# Altium footprint library Gate_Driver.PcbLib: 8 footprints
Each footprint in its own frame and in the unit in brackets; x right, y up, seen from the top. Pads: shape width x height; smd on the part's side, far side on the other; paste and mask are expansions set on the pad; w line width, h text height; cw(c..) or ccw(c..) is an arc to the next point about the centre after c.
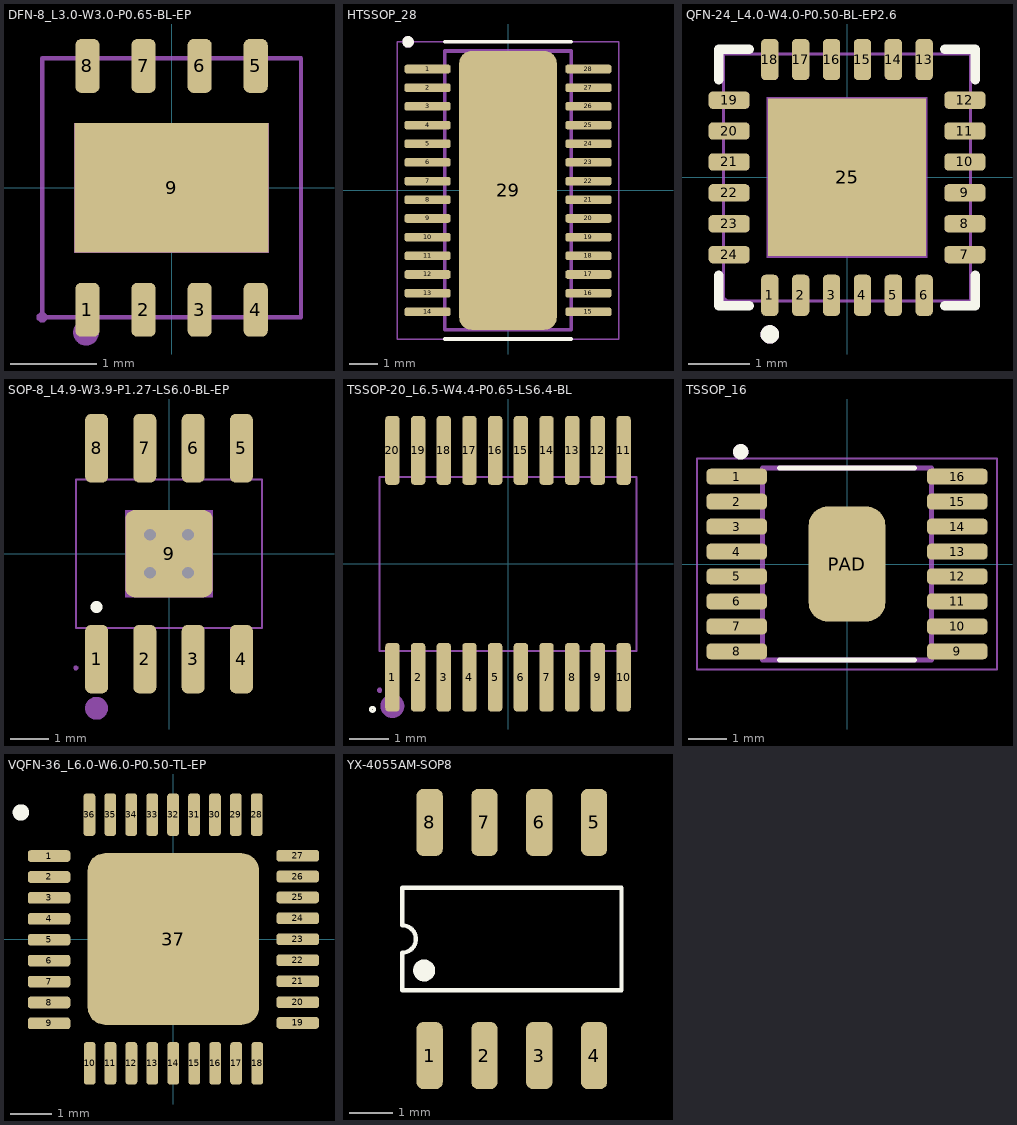
[diagram p0: the footprints below, top view; thin cyan lines are the x and y axes]

## DFN-8_L3.0-W3.0-P0.65-BL-EP [mm]
pads (9):
  rrect50% 0.28x0.625 smd mask+0.051: 1(-0.975,-1.412) 2(-0.325,-1.412) 3(0.325,-1.412) 4(0.975,-1.412) 5(0.975,1.412) 6(0.325,1.412) 7(-0.325,1.412) 8(-0.975,1.412)
  rect 2.25x1.5 smd mask+0.051: 9(0,0)
Mechanical 6:
  circle w0.15: c-0.991,-1.676 r0.075
Mechanical 15:
  region: -1.44,-1.5 -1.44,-1.475 -1.475,-1.44 -1.525,-1.44 -1.56,-1.475 -1.56,-1.5 -1.56,-1.525 -1.525,-1.56 -1.475,-1.56 -1.44,-1.525 -1.44,-1.5
  region: -1.092,-1.5 -1.092,-1.125 -0.867,-1.125 -0.867,-1.5
  region: -0.436,-1.5 -0.436,-1.125 -0.211,-1.125 -0.211,-1.5
  region: 0.212,-1.5 0.212,-1.125 0.437,-1.125 0.437,-1.5
  region: 0.863,-1.5 0.863,-1.125 1.088,-1.125 1.088,-1.5
  region: 0.862,1.499 0.862,1.124 1.088,1.124 1.088,1.499
  region: 0.212,1.499 0.212,1.124 0.437,1.124 0.437,1.499
  region: -0.436,1.499 -0.436,1.124 -0.211,1.124 -0.211,1.499
  region: -1.092,1.499 -1.092,1.124 -0.867,1.124 -0.867,1.499
  region: -1.125,-0.75 -1.125,0.75 1.125,0.75 1.125,-0.75
  lines w0.051: -1.5,-1.5 -1.5,1.5 1.5,1.5 1.5,-1.5 -1.5,-1.5
3D body "DFN-8 3x3.step": height 1, standoff 0, extent -1.5,-1.525 1.5,1.525

## HTSSOP_28 [mm] "HTSSOP_28"
height 4.3
pads (29):
  rrect50% 1.6x0.3 smd paste-2 mask+0: 1(-2.8,4.225) 2(-2.8,3.575) 3(-2.8,2.925) 4(-2.8,2.275) 5(-2.8,1.625) 6(-2.8,0.975) 7(-2.8,0.325) 8(-2.8,-0.325) 9(-2.8,-0.975) 10(-2.8,-1.625) 11(-2.8,-2.275) 12(-2.8,-2.925) 13(-2.8,-3.575) 14(-2.8,-4.225) 15(2.8,-4.225) 16(2.8,-3.575) 17(2.8,-2.925) 18(2.8,-2.275) 19(2.8,-1.625) 20(2.8,-0.975) 21(2.8,-0.325) 22(2.8,0.325) 23(2.8,0.975) 24(2.8,1.625) 25(2.8,2.275) 26(2.8,2.925) 27(2.8,3.575) 28(2.8,4.225)
  rrect25% 3.4x9.7 smd paste-6 mask+0: 29(0,0)
Top Overlay:
  circle w0.2: c-3.478,5.17 r0.1
  lines w0.127: -2.2,-5.17 2.2,-5.17 ; -2.2,5.17 2.2,5.17
Top Paste:
  region: 3.575,-4.35 2.025,-4.35 2.025,-4.1 3.575,-4.1
  region: 3.575,-3.7 2.025,-3.7 2.025,-3.45 3.575,-3.45
  region: 3.575,-3.05 2.025,-3.05 2.025,-2.8 3.575,-2.8
  region: 3.575,-2.4 2.025,-2.4 2.025,-2.15 3.575,-2.15
  region: 3.575,-1.75 2.025,-1.75 2.025,-1.5 3.575,-1.5
  region: 3.575,-1.1 2.025,-1.1 2.025,-0.85 3.575,-0.85
  region: 3.575,-0.45 2.025,-0.45 2.025,-0.2 3.575,-0.2
  region: -2.025,-4.35 -3.575,-4.35 -3.575,-4.1 -2.025,-4.1
  region: -2.025,-3.7 -3.575,-3.7 -3.575,-3.45 -2.025,-3.45
  region: -2.025,-3.05 -3.575,-3.05 -3.575,-2.8 -2.025,-2.8
  region: -2.025,-2.4 -3.575,-2.4 -3.575,-2.15 -2.025,-2.15
  region: -2.025,-1.75 -3.575,-1.75 -3.575,-1.5 -2.025,-1.5
  region: -2.025,-1.1 -3.575,-1.1 -3.575,-0.85 -2.025,-0.85
  region: -2.025,-0.45 -3.575,-0.45 -3.575,-0.2 -2.025,-0.2
  region: 3.575,0.2 2.025,0.2 2.025,0.45 3.575,0.45
  region: -2.025,0.2 -3.575,0.2 -3.575,0.45 -2.025,0.45
  region: 3.575,0.85 2.025,0.85 2.025,1.1 3.575,1.1
  region: -2.025,0.85 -3.575,0.85 -3.575,1.1 -2.025,1.1
  region: 3.575,1.5 2.025,1.5 2.025,1.75 3.575,1.75
  region: -2.025,1.5 -3.575,1.5 -3.575,1.75 -2.025,1.75
  region: 3.575,2.15 2.025,2.15 2.025,2.4 3.575,2.4
  region: -2.025,2.15 -3.575,2.15 -3.575,2.4 -2.025,2.4
  region: 3.575,2.8 2.025,2.8 2.025,3.05 3.575,3.05
  region: -2.025,2.8 -3.575,2.8 -3.575,3.05 -2.025,3.05
  region: 3.575,3.45 2.025,3.45 2.025,3.7 3.575,3.7
  region: -2.025,3.45 -3.575,3.45 -3.575,3.7 -2.025,3.7
  region: 3.575,4.1 2.025,4.1 2.025,4.35 3.575,4.35
  region: -2.025,4.1 -3.575,4.1 -3.575,4.35 -2.025,4.35
  region: 1.2,-3.23 -1.2,-3.23 -1.2,3.23 1.2,3.23
Top Solder:
  region: 3.67,-4.445 1.93,-4.445 1.93,-4.005 3.67,-4.005
  region: 3.67,-3.795 1.93,-3.795 1.93,-3.355 3.67,-3.355
  region: 3.67,-3.145 1.93,-3.145 1.93,-2.705 3.67,-2.705
  region: 3.67,-2.495 1.93,-2.495 1.93,-2.055 3.67,-2.055
  region: 3.67,-1.845 1.93,-1.845 1.93,-1.405 3.67,-1.405
  region: 3.67,-1.195 1.93,-1.195 1.93,-0.755 3.67,-0.755
  region: 3.67,-0.545 1.93,-0.545 1.93,-0.105 3.67,-0.105
  region: -1.93,-4.445 -3.67,-4.445 -3.67,-4.005 -1.93,-4.005
  region: -1.93,-3.795 -3.67,-3.795 -3.67,-3.355 -1.93,-3.355
  region: -1.93,-3.145 -3.67,-3.145 -3.67,-2.705 -1.93,-2.705
  region: -1.93,-2.495 -3.67,-2.495 -3.67,-2.055 -1.93,-2.055
  region: -1.93,-1.845 -3.67,-1.845 -3.67,-1.405 -1.93,-1.405
  region: -1.93,-1.195 -3.67,-1.195 -3.67,-0.755 -1.93,-0.755
  region: -1.93,-0.545 -3.67,-0.545 -3.67,-0.105 -1.93,-0.105
  region: 3.67,0.105 1.93,0.105 1.93,0.545 3.67,0.545
  region: -1.93,0.105 -3.67,0.105 -3.67,0.545 -1.93,0.545
  region: 3.67,0.755 1.93,0.755 1.93,1.195 3.67,1.195
  region: -1.93,0.755 -3.67,0.755 -3.67,1.195 -1.93,1.195
  region: 3.67,1.405 1.93,1.405 1.93,1.845 3.67,1.845
  region: -1.93,1.405 -3.67,1.405 -3.67,1.845 -1.93,1.845
  region: 3.67,2.055 1.93,2.055 1.93,2.495 3.67,2.495
  region: -1.93,2.055 -3.67,2.055 -3.67,2.495 -1.93,2.495
  region: 3.67,2.705 1.93,2.705 1.93,3.145 3.67,3.145
  region: -1.93,2.705 -3.67,2.705 -3.67,3.145 -1.93,3.145
  region: 3.67,3.355 1.93,3.355 1.93,3.795 3.67,3.795
  region: -1.93,3.355 -3.67,3.355 -3.67,3.795 -1.93,3.795
  region: 3.67,4.005 1.93,4.005 1.93,4.445 3.67,4.445
  region: -1.93,4.005 -3.67,4.005 -3.67,4.445 -1.93,4.445
  region: 1.2,-3.23 -1.2,-3.23 -1.2,3.23 1.2,3.23
Mechanical 13:
  circle w0.2: c-3.478,5.17 r0.1
  lines w0.127: -2.2,-4.85 -2.2,4.85 2.2,4.85 2.2,-4.85 -2.2,-4.85
Mechanical 15:
  lines w0.05: -3.85,-5.17 -3.85,5.17 3.85,5.17 3.85,-5.17 -3.85,-5.17
3D body "step_temp.STEP": height 1.2, standoff 0, extent -3.2,-4.85 3.2,4.85

## QFN-24_L4.0-W4.0-P0.50-BL-EP2.6 [mm]
pads (25):
  rrect50% 0.28x0.665 smd mask+0.05: 1(-1.25,-1.908) 2(-0.75,-1.908) 3(-0.25,-1.908) 4(0.25,-1.908) 5(0.75,-1.908) 6(1.25,-1.908) 13(1.25,1.908) 14(0.75,1.908) 15(0.25,1.908) 16(-0.25,1.908) 17(-0.75,1.908) 18(-1.25,1.908)
  rrect50% 0.665x0.28 smd mask+0.05: 7(1.908,-1.25) 8(1.908,-0.75) 9(1.908,-0.25) 10(1.908,0.25) 11(1.908,0.75) 12(1.908,1.25) 19(-1.908,1.25) 20(-1.908,0.75) 21(-1.908,0.25) 22(-1.908,-0.25) 23(-1.908,-0.75) 24(-1.908,-1.25)
  rect 2.55x2.55 smd mask+0.05: 25(0,0)
Top Overlay:
  circle w0.15: c-1.25,-2.54 r0.075
  lines w0.152: -2.076,-1.58 -2.076,-2.076 -1.58,-2.076 ; -2.076,1.58 -2.076,2.076 -1.58,2.076 ; 1.58,-2.076 2.076,-2.076 2.076,-1.58 ; 1.58,2.076 2.076,2.076 2.076,1.58
Top Paste:
  region: -1.02,1.02 1.02,1.02 1.02,-1.02 -1.02,-1.02
  region: -1.39,-2.24 -1.39,-1.575 -1.11,-1.575 -1.11,-2.24
  region: -0.89,-2.24 -0.89,-1.575 -0.61,-1.575 -0.61,-2.24
  region: -0.39,-2.24 -0.39,-1.575 -0.11,-1.575 -0.11,-2.24
  region: 0.11,-2.24 0.11,-1.575 0.39,-1.575 0.39,-2.24
  region: 0.61,-2.24 0.61,-1.575 0.89,-1.575 0.89,-2.24
  region: 1.11,-2.24 1.11,-1.575 1.39,-1.575 1.39,-2.24
  region: 2.24,-1.39 2.24,-1.11 1.575,-1.11 1.575,-1.39
  region: 2.24,-0.89 2.24,-0.61 1.575,-0.61 1.575,-0.89
  region: 2.24,-0.39 2.24,-0.11 1.575,-0.11 1.575,-0.39
  region: 2.24,0.11 2.24,0.39 1.575,0.39 1.575,0.11
  region: 2.24,0.61 2.24,0.89 1.575,0.89 1.575,0.61
  region: 2.24,1.11 2.24,1.39 1.575,1.39 1.575,1.11
  region: 1.11,2.24 1.11,1.575 1.39,1.575 1.39,2.24
  region: 0.61,2.24 0.61,1.575 0.89,1.575 0.89,2.24
  region: 0.11,2.24 0.11,1.575 0.39,1.575 0.39,2.24
  region: -0.39,2.24 -0.39,1.575 -0.11,1.575 -0.11,2.24
  region: -0.89,2.24 -0.89,1.575 -0.61,1.575 -0.61,2.24
  region: -1.39,2.24 -1.39,1.575 -1.11,1.575 -1.11,2.24
  region: -1.575,1.11 -1.575,1.39 -2.24,1.39 -2.24,1.11
  region: -1.575,0.61 -1.575,0.89 -2.24,0.89 -2.24,0.61
  region: -1.575,0.11 -1.575,0.39 -2.24,0.39 -2.24,0.11
  region: -1.575,-0.39 -1.575,-0.11 -2.24,-0.11 -2.24,-0.39
  region: -1.575,-0.89 -1.575,-0.61 -2.24,-0.61 -2.24,-0.89
  region: -1.575,-1.39 -1.575,-1.11 -2.24,-1.11 -2.24,-1.39
Mechanical 6:
  circle w0.15: c-1.25,-2.54 r0.075
Mechanical 15:
  region: -1.3,1.3 1.3,1.3 1.3,-1.3 -1.3,-1.3
  region: -1.6,-1.37 -1.6,-1.13 -2,-1.13 -2,-1.37
  region: -1.6,-0.87 -1.6,-0.63 -2,-0.63 -2,-0.87
  region: -1.6,-0.37 -1.6,-0.13 -2,-0.13 -2,-0.37
  region: -1.6,0.13 -1.6,0.37 -2,0.37 -2,0.13
  region: -1.6,0.63 -1.6,0.87 -2,0.87 -2,0.63
  region: -1.6,1.13 -1.6,1.37 -2,1.37 -2,1.13
  region: -1.37,2 -1.37,1.6 -1.13,1.6 -1.13,2
  region: -0.87,2 -0.87,1.6 -0.63,1.6 -0.63,2
  region: -0.37,2 -0.37,1.6 -0.13,1.6 -0.13,2
  region: 0.13,2 0.13,1.6 0.37,1.6 0.37,2
  region: 0.63,2 0.63,1.6 0.87,1.6 0.87,2
  region: 1.13,2 1.13,1.6 1.37,1.6 1.37,2
  region: 1.6,1.13 1.6,1.37 2,1.37 2,1.13
  region: 1.6,0.63 1.6,0.87 2,0.87 2,0.63
  region: 1.6,0.13 1.6,0.37 2,0.37 2,0.13
  region: 1.6,-0.37 1.6,-0.13 2,-0.13 2,-0.37
  region: 1.6,-0.87 1.6,-0.63 2,-0.63 2,-0.87
  region: 1.6,-1.37 1.6,-1.13 2,-1.13 2,-1.37
  region: 1.13,-2 1.13,-1.6 1.37,-1.6 1.37,-2
  region: 0.63,-2 0.63,-1.6 0.87,-1.6 0.87,-2
  region: 0.13,-2 0.13,-1.6 0.37,-1.6 0.37,-2
  region: -0.37,-2 -0.37,-1.6 -0.13,-1.6 -0.13,-2
  region: -0.87,-2 -0.87,-1.6 -0.63,-1.6 -0.63,-2
  region: -1.37,-2 -1.37,-1.6 -1.13,-1.6 -1.13,-2
  region: -1.94,-2 -1.94,-1.975 -1.975,-1.94 -2.025,-1.94 -2.06,-1.975 -2.06,-2 -2.06,-2.025 -2.025,-2.06 -1.975,-2.06 -1.94,-2.025 -1.94,-2
  lines w0.051: -2,-2 2,-2 2,2 -2,2 -2,-2
3D body "QFN-24 (4x4x0.9).step": height 0.92, standoff 0, extent -2.012,-2.012 1.988,1.988

## SOP-8_L4.9-W3.9-P1.27-LS6.0-BL-EP [mm]
pads (9):
  rrect50% 0.6x1.8 smd paste+0 mask+0.051: 1(-1.905,-2.772) 2(-0.635,-2.772) 3(0.635,-2.772) 4(1.905,-2.772) 5(1.905,2.772) 6(0.635,2.772) 7(-0.635,2.772) 8(-1.905,2.772)
  rrect20% 2.29x2.29 smd paste+0 mask+0.051: 9(0,0)
via 0.5,0.5 diameter 0.61 hole 0.305
via 0.5,-0.5 diameter 0.61 hole 0.305
via -0.5,-0.5 diameter 0.61 hole 0.305
via -0.5,0.5 diameter 0.61 hole 0.305
Top Overlay:
  circle w0.3: c-1.905,-1.397 r0.007
Mechanical 6:
  circle w0.3: c-1.905,-4.064 r0.15
Mechanical 15:
  region: -1.145,-1.145 -1.145,1.145 1.145,1.145 1.145,-1.145
  region: 1.695,2.175 1.695,1.94 2.115,1.94 2.115,2.175
  region: 1.695,3 1.695,2.165 2.115,2.165 2.115,3
  region: 0.425,2.175 0.425,1.94 0.845,1.94 0.845,2.175
  region: 0.425,3 0.425,2.165 0.845,2.165 0.845,3
  region: -0.845,2.175 -0.845,1.94 -0.425,1.94 -0.425,2.175
  region: -0.845,3 -0.845,2.165 -0.425,2.165 -0.425,3
  region: -2.115,2.175 -2.115,1.94 -1.695,1.94 -1.695,2.175
  region: -2.115,3 -2.115,2.165 -1.695,2.165 -1.695,3
  region: 1.695,-2.175 1.695,-1.94 2.115,-1.94 2.115,-2.175
  region: 1.695,-3 1.695,-2.165 2.115,-2.165 2.115,-3
  region: 0.425,-2.175 0.425,-1.94 0.845,-1.94 0.845,-2.175
  region: 0.425,-3 0.425,-2.165 0.845,-2.165 0.845,-3
  region: -0.845,-2.175 -0.845,-1.94 -0.425,-1.94 -0.425,-2.175
  region: -0.845,-3 -0.845,-2.165 -0.425,-2.165 -0.425,-3
  region: -2.115,-2.175 -2.115,-1.94 -1.695,-1.94 -1.695,-2.175
  region: -2.115,-3 -2.115,-2.165 -1.695,-2.165 -1.695,-3
  region: -2.39,-3 -2.39,-2.975 -2.425,-2.94 -2.475,-2.94 -2.51,-2.975 -2.51,-3 -2.51,-3.025 -2.475,-3.06 -2.425,-3.06 -2.39,-3.025 -2.39,-3
  lines w0.051: -2.45,-1.95 2.45,-1.95 2.45,1.95 -2.45,1.95 -2.45,-1.95

## TSSOP-20_L6.5-W4.4-P0.65-LS6.4-BL [mm]
pads (20):
  rrect50% 0.364x1.742 smd: 1(-2.925,-2.871) 2(-2.275,-2.871) 3(-1.625,-2.871) 4(-0.975,-2.871) 5(-0.325,-2.871) 6(0.325,-2.871) 7(0.975,-2.871) 8(1.625,-2.871) 9(2.275,-2.871) 10(2.925,-2.871) 11(2.925,2.871) 12(2.275,2.871) 13(1.625,2.871) 14(0.975,2.871) 15(0.325,2.871) 16(-0.325,2.871) 17(-0.975,2.871) 18(-1.625,2.871) 19(-2.275,2.871) 20(-2.925,2.871)
Top Overlay:
  circle w0.076: c-3.429,-3.683 r0.051
Mechanical 6:
  circle w0.3: c-2.925,-3.6 r0.15
Mechanical 15:
  drawing of 45 lines, arcs and shapes, not listed
3D body "User Library-TSSOP20.STEP": height 1.09, standoff 0, extent -3.146,-3.14 3.354,3.14

## TSSOP_16 [mm] "TSSOP_16"
height 4.3
pads (17):
  rrect50% 1.57x0.41 smd: 1(-2.87,2.275) 2(-2.87,1.625) 3(-2.87,0.975) 4(-2.87,0.325) 5(-2.87,-0.325) 6(-2.87,-0.975) 7(-2.87,-1.625) 8(-2.87,-2.275) 9(2.87,-2.275) 10(2.87,-1.625) 11(2.87,-0.975) 12(2.87,-0.325) 13(2.87,0.325) 14(2.87,0.975) 15(2.87,1.625) 16(2.87,2.275)
  rrect50% 2x3 smd: PAD(0,0)
Top Overlay:
  circle w0.2: c-2.767,2.921 r0.1
  lines w0.127: -1.765,-2.5 1.765,-2.5 ; -1.765,2.5 1.765,2.5
Mechanical 4:
  circle w0.2: c-2.767,2.921 r0.1
  circle w0.2: c-2.767,2.921 r0.1
  lines w0.127: -2.2,-2.5 2.2,-2.5 ; -2.2,-2.5 -2.2,2.5 ; -2.2,-2.5 2.2,-2.5 ; -2.2,-2.5 -2.2,2.5 ; -2.2,2.5 2.2,2.5 ; -2.2,2.5 2.2,2.5 ; 2.2,-2.5 2.2,2.5 ; 2.2,-2.5 2.2,2.5
Mechanical 16:
  lines w0.05: -3.905,-2.75 3.905,-2.75 3.905,2.75 -3.905,2.75 -3.905,-2.75
3D body "User Library-TSSOP-16-2.STEP": height 1.2, standoff 0, extent -3.2,-2.5 3.2,2.5

## VQFN-36_L6.0-W6.0-P0.50-TL-EP [mil]
pads (37):
  rrect50% 40x11.02 smd paste+0 mask+2: 1(-117,78) 2(-117,58.4) 3(-117,38.7) 4(-117,19) 5(-117,-0.7) 6(-117,-20.4) 7(-117,-40.1) 8(-117,-59.8) 9(-117,-79.4) 19(117,-79) 20(117,-59.4) 21(117,-39.7) 22(117,-20) 23(117,-0.3) 24(117,19.4) 25(117,39.1) 26(117,58.8) 27(117,78.4)
  rrect50% 11.02x40 smd paste+0 mask+2: 10(-78.8,-117) 11(-59.2,-117) 12(-39.5,-117) 13(-19.8,-117) 14(-0.1,-117) 15(19.6,-117) 16(39.3,-117) 17(59,-117) 18(79,-117) 28(78.4,117) 29(58.8,117) 30(39.1,117) 31(19.4,117) 32(-0.3,117) 33(-20,117) 34(-39.7,117) 35(-59.4,117) 36(-79,117)
  rrect20% 161.42x161.42 smd paste+0 mask+2: 37(0,0)
Top Overlay:
  lines w11.81: -141.7,119 cw(c-143.48,119.05) -141.7,119.1
3D body "User Library-TQFN-36.STEP": height 31.5, standoff 0, extent -120.47,-120.47 120.47,120.47

## YX-4055AM-SOP8 [mil]
pads (8):
  rrect50% 24x61 smd paste+0 mask+4: 1(19881.51,-15051.07) 2(19931.51,-15051.07) 3(19981.51,-15051.07) 4(20031.51,-15051.07) 5(20031.51,-14838.47) 6(19981.51,-14838.47) 7(19931.51,-14838.47) 8(19881.51,-14838.47)
Top Overlay:
  circle w10: c19876.51,-14973.47 r5
  lines w4: 19856.51,-14991.57 20056.51,-14991.57 20056.51,-14897.97 19856.51,-14897.97 19856.51,-14932.27 cw(c19856.51,-14944.77) 19856.51,-14957.27 19856.51,-14991.57
3D body "SW3DPS-SO-8-DEFAULT.STEP": height 57, standoff 0, extent 19860,-15058.75 20053,-14831.25